# Altium footprint library Fixed_inductor_Pcb.PcbLib: 10 footprints
Each footprint in its own frame and in the unit in brackets; x right, y up, seen from the top. Pads: shape width x height; smd on the part's side, far side on the other; paste and mask are expansions set on the pad; w line width, h text height; cw(c..) or ccw(c..) is an arc to the next point about the centre after c.
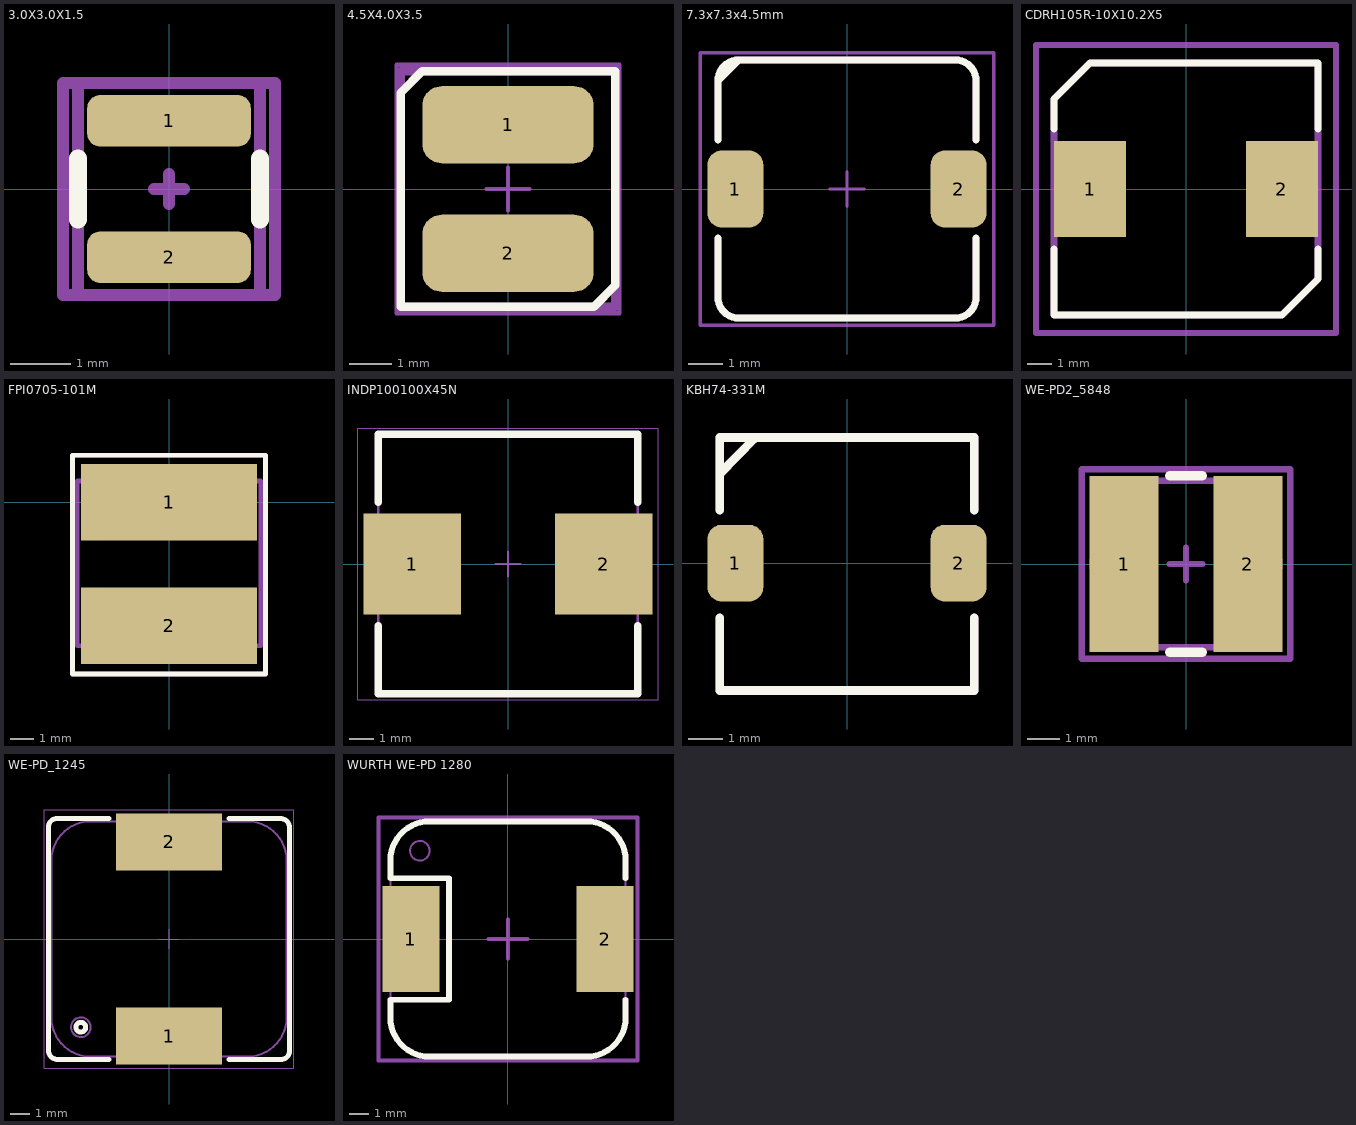
[diagram p0: the footprints below, top view; thin cyan lines are the x and y axes]

## 3.0X3.0X1.5 [mm]
pads (2):
  rrect50% 2.7x0.85 smd: 1(0,1.125) 2(0,-1.125)
Top Overlay:
  lines w0.3: -1.5,-0.5 -1.5,0.5 ; 1.5,-0.5 1.5,0.5
Mechanical 13:
  lines w0.2: -1.5,-1.75 1.5,-1.75 1.5,1.75 -1.5,1.75 -1.5,-1.75
Mechanical 15:
  lines w0.2: -0.25,0 0.25,0 ; 0,-0.25 0,0.25 ; -1.75,-1.75 -1.75,1.75 1.75,1.75 1.75,-1.75 -1.75,-1.75
3D body "FPI0302 (3_4 x 3_0 x 2_1).step": height 2.1, standoff 0, extent -1.508,-1.75 1.508,1.75

## 4.5X4.0X3.5 [mm]
pads (2):
  rrect50% 4x1.8 smd: 1(0,1.5) 2(0,-1.5)
Top Overlay:
  lines w0.2: -2.5,-2.75 2,-2.75 2.5,-2.25 2.5,2.75 -2,2.75 -2.5,2.25 -2.5,-2.75
Mechanical 13:
  lines w0.2: -2.5,-2.75 -2.5,0 -2.5,2.75 2.5,2.75 2.5,-2.75 -2.5,-2.75
  text ".Designator" at -1.75,-0.468 h1.5
Mechanical 15:
  lines w0.1: -0.5,0 0.5,0 ; 0,-0.5 0,0.5 ; -2.6,-2.9 -2.6,2.9 2.6,2.9 2.6,-2.9 -2.6,-2.9
3D body "SDR0403.STEP": height 3.5, standoff 0, extent -2.25,-2.25 2.25,2.25

## 7.3x7.3x4.5mm [mm]
pads (2):
  rrect50% 1.6x2.2 smd: 1(-3.2,0) 2(3.2,0)
Top Overlay:
  lines w0.2: -3.7,-1.4 -3.7,-3.1 ccw(c-3.1,-3.1) -3.1,-3.7 0,-3.7 3.1,-3.7 ccw(c3.1,-3.1) 3.7,-3.1 3.7,-1.4 ; -3.7,1.4 -3.7,3.1 ; 3.7,1.4 3.7,3.1 ccw(c3.1,3.1) 3.1,3.7 0,3.7 -3.1,3.7 ; -3.7,3.1 cw(c-3.1,3.1) -3.1,3.7 ; -3.7,3.1 -3.1,3.7
Mechanical 13:
  lines w0.2: -3.7,-1.4 -3.7,-3.1 ccw(c-3.1,-3.1) -3.1,-3.7 0,-3.7 3.1,-3.7 ccw(c3.1,-3.1) 3.7,-3.1 3.7,-1.4 ; -3.7,1.4 -3.7,3.1 cw(c-3.1,3.1) -3.1,3.7 0,3.7 3.1,3.7 cw(c3.1,3.1) 3.7,3.1 3.7,1.4
Mechanical 15:
  lines w0.1: -3.7,1.4 -3.7,3.1 ; -0.5,0 0.5,0 ; 0,-0.5 0,0.5 ; -4.2,-3.9 4.2,-3.9 4.2,3.9 0,3.9 -4.2,3.9 -4.2,-3.9
3D body "WE-PD_7345_STP (rev1).stp": height 3.93, standoff 0.01, extent -3.65,-3.65 3.65,3.65

## CDRH105R-10X10.2X5 [mm] "CDRH105R-330uh fixed indc. pcb footprint"
pads (2):
  rect 3x4 smd: 1(-4,0) 2(4,0)
Top Overlay:
  lines w0.3: -5.5,-2.5 -5.5,-5.25 4,-5.25 5.5,-3.75 5.5,-2.5 ; -5.5,2.5 -5.5,3.75 -4,5.25 5.5,5.25 5.5,2.5
Mechanical 13:
  lines w0.3: -5.5,-5.25 -5.5,-2.5 -5.5,3.75 -4,5.25 5.5,5.25 5.5,2.5 5.5,-3.75 4,-5.25 -5.5,-5.25
  text ".designator" at -3,2.786 h1.52
Mechanical 15:
  lines w0.254: -6.25,-6 6.25,-6 6.25,6 -6.25,6 -6.25,-6
3D body "CDRH105RNP-151NC--3DModel-STEP-56544.STEP": height 5.11, standoff 0.01, extent -5.1,-5 5.1,5

## FPI0705-101M [mm]
pads (2):
  rect 7.5x3.25 smd paste+0 mask+0.1: 1(0,0) 2(0,-5.25)
Top Overlay:
  lines w0.2: -4.1,-7.3 -4.1,2 4.1,2 4.1,-7.3 -4.1,-7.3
Mechanical 13:
  lines w0.2: -3.9,-6.1 -3.9,0.9 3.9,0.9 3.9,-6.1 -3.9,-6.1
  text "'.designator'" at -3.45,-5.483 h0.5
Mechanical 15:
  lines w0.2: -4.1,-7.3 -4.1,2 4.1,2 4.1,-7.3 -4.1,-7.3
3D body "fixed inductor 7_3x7_3x4_2.step": height 4.3, standoff 0.01, extent -3.65,-6.3 3.65,1.1

## INDP100100X45N [mm] "Precision Wire Wound Inductor, 2-Leads, Body 10.00x10.00mm, IPC Medium Density"
height 4.5
pads (2):
  rect 3.95x4.1 smd: 1(-3.875,0) 2(3.875,0)
Top Overlay:
  lines w0.3: -5.25,-2.5 -5.25,-5.25 5.25,-5.25 5.25,-2.5 ; -5.25,2.5 -5.25,5.25 5.25,5.25 5.25,2.5
Mechanical 13:
  lines w0.1: -5.25,-5.25 5.25,-5.25 5.25,5.25 -5.25,5.25 -5.25,-5.25
  text ".Designator" at -2.852,-0.973 h1.5
Mechanical 15:
  lines w0.05: -6.075,-5.5 6.075,-5.5 6.075,5.5 -6.075,5.5 -6.075,-5.5
  lines w0.1: -0.5,0 0.5,0 ; 0,-0.5 0,0.5
3D body "fixed_inductor.step": height 7.42, standoff 0.01, extent -6,-6 6,6

## KBH74-331M [mm]
pads (2):
  rrect50% 1.6x2.2 smd: 1(-3.2,0) 2(3.2,0)
Top Overlay:
  lines w0.25: -3.65,-1.575 -3.65,-3.65 3.65,-3.65 3.65,-1.575 ; -3.65,1.525 -3.65,3.6 3.65,3.6 3.65,1.525 ; -3.65,2.563 -2.65,3.575
Mechanical 13:
  lines w0.25: -3.65,-1.575 -3.65,-3.65 3.65,-3.65 3.65,-1.575 ; -3.65,1.525 -3.65,3.6 3.65,3.6 3.65,1.525 ; -3.65,2.563 -2.65,3.575
  text ".designator" at -2,-0.274 h1.2
3D body "TDK - SLF7032.step": height 3.39, standoff 0, extent -3.585,-3.575 3.535,3.525

## WE-PD2_5848 [mm] "SMD Power Inductor, 2-Leads, body 5.8x5.2mm"
height 4.85
pads (2):
  rect 2.15x5.5 smd: 1(-1.925,0) 2(1.925,0)
Top Overlay:
  lines w0.3: -0.5,-2.75 0.5,-2.75 ; -0.5,2.75 0.5,2.75
Mechanical 13:
  circle w0.2: c-2.3,0 r0.25
  lines w0.2: -1.5,-2.6 cw(c0.214,0) -1.5,2.6 1.5,2.6 cw(c-0.214,0) 1.5,-2.6 -1.5,-2.6
Mechanical 15:
  lines w0.2: -0.5,0 0.5,0 ; 0,-0.5 0,0.5 ; -3.25,-2.95 3.25,-2.95 3.25,2.95 -3.25,2.95 -3.25,-2.95
3D body "744774xx.stp": height 4.48, standoff -0.02, extent -2.898,-2.6 2.889,2.6

## WE-PD_1245 [mm] "SMT Shielded Power Inductor, 2-leads, body 12x12mm"
height 4.5
pads (2):
  rect 5.4x2.9 smd: 1(0,-4.95) 2(0,4.95)
Top Overlay:
  circle w0.25: c-4.5,-4.5 r0.25
  lines w0.25: -3.05,-6.15 -5.675,-6.15 cw(c-5.675,-5.675) -6.15,-5.675 -6.15,5.703 cw(c-5.703,5.703) -5.703,6.15 -3.05,6.15 ; 3.05,-6.15 5.7,-6.15 ccw(c5.7,-5.7) 6.15,-5.7 6.15,5.675 ccw(c5.675,5.675) 5.675,6.15 3.05,6.15
Mechanical 13:
  circle w0.1: c-4.5,-4.5 r0.5
  lines w0.1: -6,-4 ccw(c-4,-4) -4,-6 4,-6 ccw(c4,-4) 6,-4 6,4 ccw(c4,4) 4,6 -4,6 ccw(c-4,4) -6,4 -6,-4
  text ".Designator" at -2.5,-0.75 h1.5
Mechanical 15:
  lines w0.05: -0.5,0 0.5,0 ; 0,-0.5 0,0.5 ; -6.35,-6.6 6.35,-6.6 6.35,6.6 -6.35,6.6 -6.35,-6.6
3D body "WE-PD_1245_m-base_7447715xx.stp": height 3.96, standoff 0, extent -6,-6 6,6

## WURTH WE-PD 1280 [mm] "SMT Shielded Power Inductor, 2-leads, body 12x12mm"
height 8
pads (2):
  rect 2.9x5.4 smd: 1(-4.95,0) 2(4.95,0)
Top Overlay:
  lines w0.3: 6,-3.1 6,-4 ; 6,3.1 6,4 ; 6,-4 cw(c4,-4) 4,-6 -4,-6 cw(c-4,-4) -6,-4 -6,-3.1 -3,-3.1 -3,3.1 -6,3.1 -6,4 cw(c-4,4) -4,6 4,6 cw(c4,4) 6,4 ; 6,-4 6,-4 ; 6,4 6,4
Mechanical 13:
  circle w0.1: c-4.5,4.5 r0.5
  lines w0.05: -0.5,0 0.5,0 ; 0,-0.5 0,0.5
  lines w0.1: -6,-4 ccw(c-4,-4) -4,-6 4,-6 ccw(c4,-4) 6,-4 6,4 ccw(c4,4) 4,6 -4,6 ccw(c-4,4) -6,4 -6,-4
Mechanical 15:
  lines w0.2: -1,0 1,0 ; 0,-1 0,1 ; -6.6,-6.2 -6.6,6.2 6.6,6.2 6.6,-6.2 -6.6,-6.2
3D body "WE-PD_1280_m-base_744770xxx.stp": height 7.51, standoff 0.05, extent -6,-6 6,6